# Altium schematic symbol library 2049280401.SchLib: 1 symbol
Pins are listed as number, name and electrical type; pins without a type are passive.

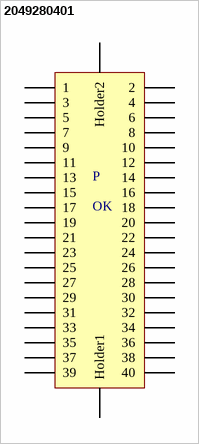
[diagram p0: symbol 2049280401]

## 2049280401
designator P, comment OK
SlimStack Board-to-Board. Plug, 0.40mm Pitch, FSB3 Floating Series, 3.00mm. Mated Height, 3.20 Mated Width, 40 Circuits
pins: 1, 2, 3, 4, 5, 6, 7, 8, 9, 10, 11, 12, 13, 14, 15, 16, 17, 18, 19, 20, 21, 22, 23, 24, 25, 26, 27, 28, 29, 30, 31, 32, 33, 34, 35, 36, 37, 38, 39, 40, 41 Holder1, 42 Holder2